# Altium integrated library Analog Devices Data Converters Analog-to-Digital Converters.IntLib: 2404 symbols (part 112 of 346)
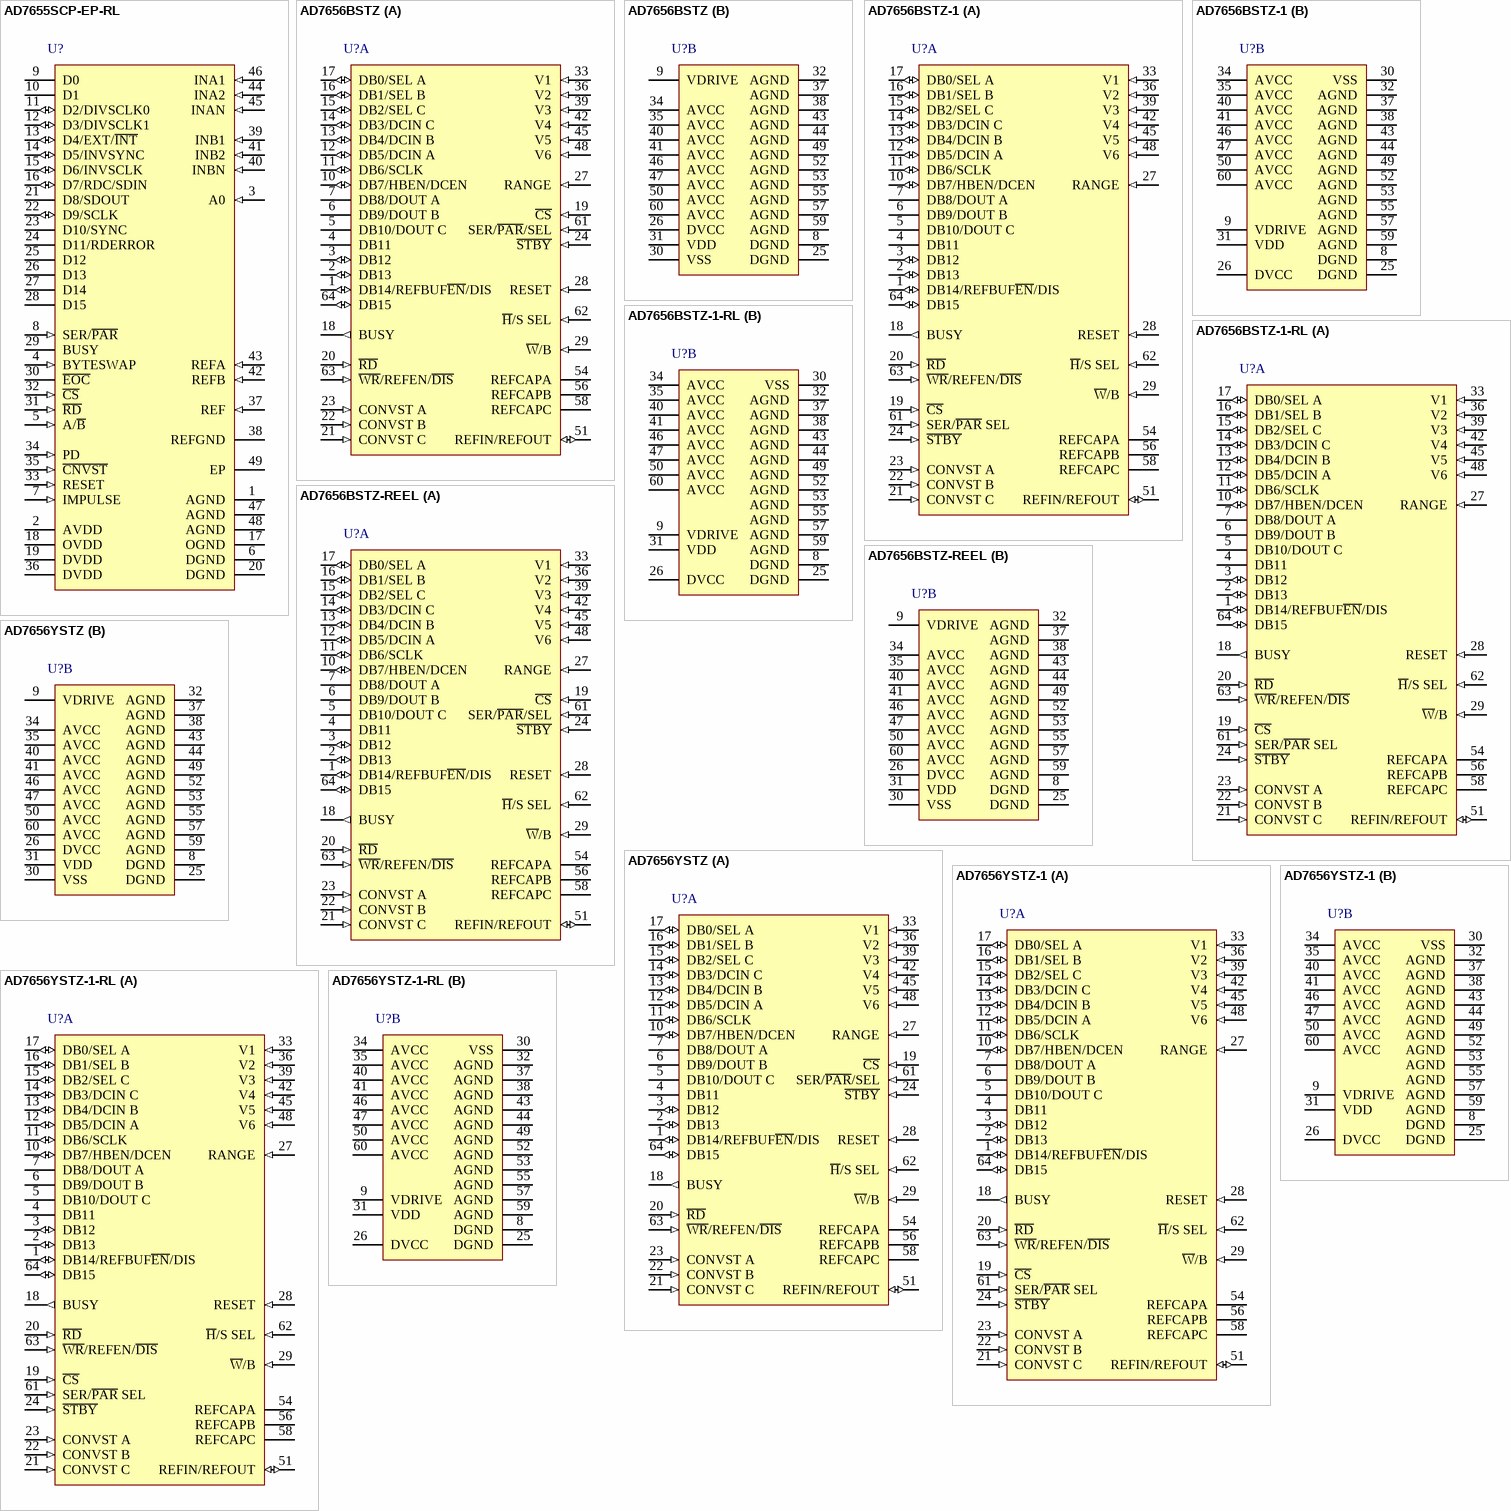
[diagram p317: symbols AD7655SCP-EP-RL to AD7656YSTZ-1-RL]

## AD7656BSTZ-REEL
designator U?
6 Channel 16-Bit Analog-to-Digital Converter with Parallel, Serial, SPI Interface, Simultaneous Sampling, 250KSPS, -40 to +85 degC, ST-64-2, Pb-Free, Reel; Generic Part Number: AD7656; Manufacturer: Analog Devices; PartNumber: AD7656BSTZ-REEL; Resolution (Bits): 16; Channels: 6; Throughput Rate (SPS): 250K; Interface: Par, Ser, SPI; DatasheetVersion: Rev.D; PackageVersion: 051706-A; PackageReference: ST-64-2; PackageDescription: 64-Lead Low Profile Quad Flat Package [LQFP]; Supplier 1: Digi-Key; Supplier Part Number 1: AD7656BSTZ-REEL-ND; Supplier 2: Newark; Supplier Part Number 2: 12M8881; Supplier 3: Mouser; Supplier Part Number 3: 584-AD7656BSTZ-R; RoHS: Y; Packing: Reel; Mounting Technology: Surface Mount; Code_JEDEC: MS-026-BCD; ComponentLink1Description: Manufacturer URL; ComponentLink1URL: http://www.analog.com/en/index.html; ComponentLink2Description: Datasheet; ComponentLink2URL: http://www.analog.com/static/imported-files/data_sheets/AD7656_7657_7658.pdf; ComponentLink3Description: Package Specification; ComponentLink3URL: http://www.analog.com/static/imported-files/packages/PKG_PDF/LQFP%28ST%29/ST_64_2.pdf; ComponentLink4Description: Product URL; ComponentLink4URL: http://www.analog.com/en/analog-to-digital-converters/ad-converters/ad7656/products/product.html
footprint ST-64-2_N (Thin QFP, 64-Leads, Body 10x10mm, Pitch 0.5mm, IPC Medium Density)
footprint ST-64-2_L (Thin QFP, 64-Leads, Body 10x10mm, Pitch 0.5mm, IPC High Density)
footprint ST-64-2_M (Thin QFP, 64-Leads, Body 10x10mm, Pitch 0.5mm, IPC Low Density)
part A pins: 1 DB14/REFBUF~{EN}/DIS (io) "Data Bit 14/REFBUF E\n\a\b\l\e\/Disable. When SER/P\A\R\ = 0, this pin acts as a three-state digital input/output pin. For the AD7657/AD7658, DB14 contains a leading zero. When SER/P\A\R\ = 1, this pin can be used to enable (See Datasheet)", 2 DB13 (io) "Data Bit 12. When SER/P\A\R\ = 0, these pins act as three-state parallel digital input/output pins. When C\S\ and R\D\ are low, these pins are used to output the conversion result. When C\S\ and W\R\ are low, these pins are (See Datasheet)", 3 DB12 (io) "Data Bit 12. When SER/P\A\R\ = 0, these pins act as three-state parallel digital input/output pins. When C\S\ and R\D\ are low, these pins are used to output the conversion result. When C\S\ and W\R\ are low, these pins are (See Datasheet)", 4 DB11 (hiz) "Data Bit 11/Digital Ground. When SER/P\A\R\ = 0, this pin acts as a three-state parallel digital output pin. When SER/P\A\R\ = 1, this pin should be tied to DGND.", 5 DB10/DOUT C (hiz) "Data Bit 10/Serial Data Output C. When SER/P\A\R\ = 0, this pin acts as a three-state parallel digital output pin. When SER/P\A\R\ = 1 and SEL C = 1, this pin takes on its DOUT C function and outputs serial conversion data. (See Datasheet)", 6 DB9/DOUT B (hiz) "Data Bit 9/Serial Data Output B. When SER/P\A\R\ = 0, this pin acts as a three-state parallel digital output pin. When SER/P\A\R\ = 1 and SEL B = 1, this pin takes on its DOUT B function and outputs serial conversion data. (See Datasheet)", 7 DB8/DOUT A (hiz) "Data Bit 8/Serial Data Output A. When SER/P\A\R\ = 0, this pin acts as a three-state parallel digital output pin. When SER/P\A\R\ = 1 and SEL A = 1, this pin takes on its DOUT A function and outputs serial conversion data.", 10 DB7/HBEN/DCEN (io) "Data Bit 7/High Byte Enable/Daisy-Chain Enable. When operating in parallel word mode (SER/P\A\R\ = 0 and W\/B = 0), this pin takes on its Data Bit 7 function. When operating in parallel byte mode (SER/P\A\R\ = 0 and W\/B = (See Datasheet)", 11 DB6/SCLK (io) "Data Bit 6/Serial Clock. When SER/P\A\R\ = 0, this pin acts as a three-state parallel digital output pin. When SER/P\A\R\ = 1, this pin takes on its SCLK input function; it is the read serial clock for the serial transfer.", 12 DB5/DCIN A (io) "Data Bit 5/Daisy-Chain Input A. When SER/P\A\R\ is low, this pin acts as a three-state parallel digital output pin. When SER/P\A\R\ = 1 and DCEN = 1, this pin acts as Daisy-Chain Input A. When operating in serial mode but (See Datasheet)", 13 DB4/DCIN B (io) "Data Bit 4/Daisy-Chain Input B. When SER/P\A\R\ = 0, this pin acts as a three-state parallel digital output pin. When SER/P\A\R\ = 1 and DCEN = 1, this pin acts as Daisy-Chain Input B. When operating in serial mode but not (See Datasheet)", 14 DB3/DCIN C (io) "Data Bit 3/Daisy-Chain Input C. When SER/P\A\R\ = 0, this pin acts as a three-state parallel digital output pin. When SER/P\A\R\ = 1 and DCEN = 1, this pin acts as Daisy-Chain Input C. When operating in serial mode but not (See Datasheet)", 15 DB2/SEL C (io) "Data Bit 2/Select DOUT C. When SER/P\A\R\ = 0, this pin acts as a three-state parallel digital output pin. When SER/P\A\R\ = 1, this pin takes on its SEL C function; it is used to configure the serial interface. If this pin (See Datasheet)", 16 DB1/SEL B (io) "Data Bit 1/Select DOUT B. When SER/P\A\R\ = 0, this pin acts as a three-state parallel digital output pin. When SER/P\A\R\ = 1, this pin takes on its SEL B function; it is used to configure the serial interface. If this pin (See Datasheet)", 17 DB0/SEL A (io) "Data Bit 0/Select DOUT A. When SER/P\A\R\ = 0, this pin acts as a three-state parallel digital output pin. When SER/P\A\R\ = 1, this pin takes on its SEL A function; it is used to configure the serial interface. If this pin (See Datasheet)", 18 BUSY (out) "BUSY Output. This pin transitions high when a conversion is started and remains high until the conversion is complete and the conversion data is latched into the output data registers. A new conversion should not be (See Datasheet)", 19 ~{CS} (in) "Chip Select. This active low logic input frames the data transfer. When both C\S\ and R\D\ are logic low in parallel mode, the output bus is enabled and the conversion result is output on the parallel data bus lines. When (See Datasheet)", 20 ~{RD} (in) "Read Data. When both C\S\ and R\D\ are logic low in parallel mode, the output bus is enabled. In serial mode, the R\D\ line should be held low.", 21 CONVST C (in) "Conversion Start Input C. These logic inputs are used to initiate conversions on the ADC pairs. CONVST A is used to initiate simultaneous conversions on V1 and V2. CONVST B is used to initiate simultaneous conversions on V3 (See Datasheet)", 22 CONVST B (in) "Conversion Start Input  B. These logic inputs are used to initiate conversions on the ADC pairs. CONVST A is used to initiate simultaneous conversions on V1 and V2. CONVST B is used to initiate simultaneous conversions on V3 (See Datasheet)", 23 CONVST A (in) "Conversion Start Input A. These logic inputs are used to initiate conversions on the ADC pairs. CONVST A is used to initiate simultaneous conversions on V1 and V2. CONVST B is used to initiate simultaneous conversions on V3 (See Datasheet)", 24 ~{STBY} (in) "Standby Mode Input. This pin is used to put all six on-chip ADCs into standby mode. The S\T\B\Y\ pin is high for normal operation and low for standby operation.", 27 RANGE (in) "Analog Input Range Selection. Logic input. The logic level on this pin determines the input range of the analog input channels. When this pin is Logic 1 at the falling edge of BUSY, the range for the next conversion is +/-2 (See Datasheet)", 28 RESET (in) "Reset Input. When set to logic high, this pin resets the AD7656/AD7657/AD7658. The current conversion, if any, is aborted. The internal register is set to all 0s. In hardware mode, the AD7656/AD7657/AD7658 are configured (See Datasheet)", 29 ~{W}/B (in) "W\o\r\d\/Byte Input. When this pin is logic low, data can be transferred to and from the AD7656/AD7657/AD7658 using the parallel data lines DB[15:0]. When this pin is logic high, byte mode is enabled. In this mode, data is (See Datasheet)", 33 V1 (in) "Analog Input 1. These are six single-ended analog inputs. In hardware mode, the analog input range on these channels is determined by the RANGE pin. In software mode, it is determined by Bit RNGC to Bit RNGA of the control (See Datasheet)", 36 V2 (in) "Analog Input 2. These are six single-ended analog inputs. In hardware mode, the analog input range on these channels is determined by the RANGE pin. In software mode, it is determined by Bit RNGC to Bit RNGA of the control (See Datasheet)", 39 V3 (in) "Analog Input 3. These are six single-ended analog inputs. In hardware mode, the analog input range on these channels is determined by the RANGE pin. In software mode, it is determined by Bit RNGC to Bit RNGA of the control (See Datasheet)", 42 V4 (in) "Analog Input 4. These are six single-ended analog inputs. In hardware mode, the analog input range on these channels is determined by the RANGE pin. In software mode, it is determined by Bit RNGC to Bit RNGA of the control (See Datasheet)", 45 V5 (in) "Analog Input 5. These are six single-ended analog inputs. In hardware mode, the analog input range on these channels is determined by the RANGE pin. In software mode, it is determined by Bit RNGC to Bit RNGA of the control (See Datasheet)", 48 V6 (in) "Analog Input6. These are six single-ended analog inputs. In hardware mode, the analog input range on these channels is determined by the RANGE pin. In software mode, it is determined by Bit RNGC to Bit RNGA of the control (See Datasheet)", 51 REFIN/REFOUT (io) "Reference Input/Output. The on-chip reference is available on this pin for use external to the AD7656. Alternatively, the internal reference can be disabled and an external reference can be applied to this input. See the (See Datasheet)", 54 REFCAPA "Decoupling capacitors are connected to these pins. This decouples the reference buffer for each ADC pair. REFCAP pin should be decoupled to AGND using 10 µF and 100 nF capacitors.", 56 REFCAPB "Decoupling capacitors are connected to these pins. This decouples the reference buffer for each ADC pair. REFCAB pin should be decoupled to AGND using 10 µF and 100 nF capacitors.", 58 REFCAPC "Decoupling capacitors are connected to these pins. This decouples the reference buffer for each ADC pair.REFCAPC pin should be decoupled to AGND using 10 µF and 100 nF capacitors.", 61 SER/~{PAR}/SEL (in) "Serial/P\a\r\a\l\l\e\l\ Selection Input. When this pin is low, the parallel interface is selected. When this pin is high, the serial interface mode is selected. In serial mode, DB[10:8] take on their DOUT[C:A] function, (See Datasheet)", 62 ~{H}/S SEL (in) "H\a\r\d\w\a\r\e\/Software Select Input. Logic input. When H\/S SEL = 0, the AD7656/AD7657/AD7658 operate in hardware select mode, and the ADC pairs to be simultaneously sampled are selected by the C\O\N\V\S\T\ pins. When (See Datasheet)", 63 ~{WR}/REFEN/~{DIS} (in) "Write Data/Reference Enable/D\i\s\a\b\l\e\. When H\/S SEL pin is high and both C\S\ and W\R\ are logic low, DB[15:8] are used to write data to the internal control register. When the H\/S SEL pin is low, this pin is used to (See Datasheet)", 64 DB15 (io) "Data Bit 15. When SER/P\A\R\ = 0, these pins act as three-state parallel digital input/output pins. When C\S\ and R\D\ are low, these pins are used to output the conversion result. When C\S\ and W\R\ are low, these pins are (See Datasheet)"
part B pins: 8 DGND (power) "Digital Ground. This is the ground reference point for all digital circuitry on the AD7656. Both DGND pins should connect to the DGND plane of a system. The DGND and AGND voltages should ideally be at the same potential and (See Datasheet)", 9 VDRIVE (power) "Logic Power Supply Input. The voltage supplied at this pin determines the operating voltage of the interface. Nominally at the same supply as the supply of the host interface. This pin should be decoupled to DGND, and 10 µF (See Datasheet)", 25 DGND (power) "Digital Ground. This is the ground reference point for all digital circuitry on the AD7656. Both DGND pins should connect to the DGND plane of a system. The DGND and AGND voltages should ideally be at the same potential and (See Datasheet)", 26 DVCC (power) "Digital Power, 4.75 V to 5.25 V. The DVCC and AVCC voltages should ideally be at the same potential and must not be more than 0.3 V apart, even on a transient basis. This supply should be decoupled to DGND, and 10 µF and 100 (See Datasheet)", 30 VSS (power) "Negative Power Supply Voltage. This is the negative supply voltage for the analog input section, and 10 µF and 100 nF decoupling capacitors should be placed on the VSS pin.", 31 VDD (power) "Positive Power Supply Voltage. This is the positive supply voltage for the analog input section, and 10 µF and 100 nF decoupling capacitors should be placed on the VDD pin.", 32 AGND (power) "Analog Ground. Ground reference point for all analog circuitry on the AD7656. All analog input signals and any external reference signal should be referred to this AGND voltage. All 11 of these AGND pins should be connected (See Datasheet)", 34 AVCC (power) "Analog Supply Voltage, 4.75 V to 5.25 V. This is the supply voltage for the ADC cores. The AVCC and DVCC voltages should ideally be at the same potential and must not be more than 0.3 V apart, even on a transient basis. (See Datasheet)", 35 AVCC (power) "Analog Supply Voltage, 4.75 V to 5.25 V. This is the supply voltage for the ADC cores. The AVCC and DVCC voltages should ideally be at the same potential and must not be more than 0.3 V apart, even on a transient basis. (See Datasheet)", 37 AGND (power) "Analog Ground. Ground reference point for all analog circuitry on the AD7656. All analog input signals and any external reference signal should be referred to this AGND voltage. All 11 of these AGND pins should be connected (See Datasheet)", 38 AGND (power) "Analog Ground. Ground reference point for all analog circuitry on the AD7656. All analog input signals and any external reference signal should be referred to this AGND voltage. All 11 of these AGND pins should be connected (See Datasheet)", 40 AVCC (power) "Analog Supply Voltage, 4.75 V to 5.25 V. This is the supply voltage for the ADC cores. The AVCC and DVCC voltages should ideally be at the same potential and must not be more than 0.3 V apart, even on a transient basis. (See Datasheet)", 41 AVCC (power) "Analog Supply Voltage, 4.75 V to 5.25 V. This is the supply voltage for the ADC cores. The AVCC and DVCC voltages should ideally be at the same potential and must not be more than 0.3 V apart, even on a transient basis. (See Datasheet)", 43 AGND (power) "Analog Ground. Ground reference point for all analog circuitry on the AD7656. All analog input signals and any external reference signal should be referred to this AGND voltage. All 11 of these AGND pins should be connected (See Datasheet)", 44 AGND (power) "Analog Ground. Ground reference point for all analog circuitry on the AD7656. All analog input signals and any external reference signal should be referred to this AGND voltage. All 11 of these AGND pins should be connected (See Datasheet)", 46 AVCC (power) "Analog Supply Voltage, 4.75 V to 5.25 V. This is the supply voltage for the ADC cores. The AVCC and DVCC voltages should ideally be at the same potential and must not be more than 0.3 V apart, even on a transient basis. (See Datasheet)", 47 AVCC (power) "Analog Supply Voltage, 4.75 V to 5.25 V. This is the supply voltage for the ADC cores. The AVCC and DVCC voltages should ideally be at the same potential and must not be more than 0.3 V apart, even on a transient basis. (See Datasheet)", 49 AGND (power) "Analog Ground. Ground reference point for all analog circuitry on the AD7656/AD7657/AD7658. All analog input signals and any external reference signal should be referred to this AGND voltage. All 11 of these AGND pins should (See Datasheet)", 50 AVCC (power) "Analog Supply Voltage, 4.75 V to 5.25 V. This is the supply voltage for the ADC cores. The AVCC and DVCC voltages should ideally be at the same potential and must not be more than 0.3 V apart, even on a transient basis. (See Datasheet)", 52 AGND (power) "Analog Ground. Ground reference point for all analog circuitry on the AD7656. All analog input signals and any external reference signal should be referred to this AGND voltage. All 11 of these AGND pins should be connected (See Datasheet)", 53 AGND (power) "Analog Ground. Ground reference point for all analog circuitry on the AD7656. All analog input signals and any external reference signal should be referred to this AGND voltage. All 11 of these AGND pins should be connected (See Datasheet)", 55 AGND (power) "Analog Ground. Ground reference point for all analog circuitry on the AD7656. All analog input signals and any external reference signal should be referred to this AGND voltage. All 11 of these AGND pins should be connected (See Datasheet)", 57 AGND (power) "Analog Ground. Ground reference point for all analog circuitry on the AD7656. All analog input signals and any external reference signal should be referred to this AGND voltage. All 11 of these AGND pins should be connected (See Datasheet)", 59 AGND (power) "Analog Ground. Ground reference point for all analog circuitry on the AD7656. All analog input signals and any external reference signal should be referred to this AGND voltage. All 11 of these AGND pins should be connected (See Datasheet)", 60 AVCC (power) "Analog Supply Voltage, 4.75 V to 5.25 V. This is the supply voltage for the ADC cores. The AVCC and DVCC voltages should ideally be at the same potential and must not be more than 0.3 V apart, even on a transient basis. (See Datasheet)"